# Altium footprint library DC 5.5 2.1.PcbLib: 1 footprints
Each footprint in its own frame and in the unit in brackets; x right, y up, seen from the top. Pads: shape width x height; smd on the part's side, far side on the other; paste and mask are expansions set on the pad; w line width, h text height; cw(c..) or ccw(c..) is an arc to the next point about the centre after c.
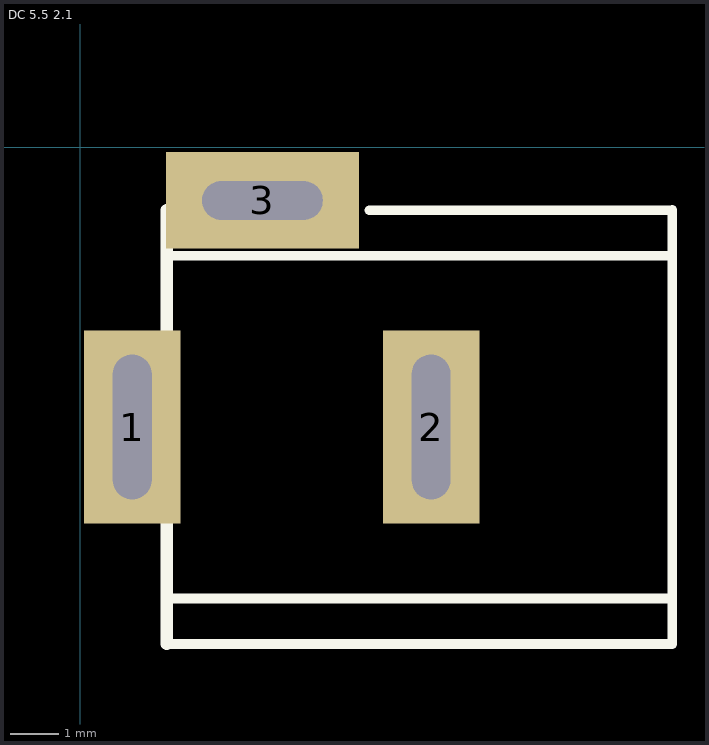
[diagram p0: the footprint, top view; thin cyan lines are the x and y axes]

## DC 5.5 2.1 [mm]
pads (3):
  rect 2x4 hole 0.8 slot 3 at 90 deg: 1(1.081,-5.799) 2(7.281,-5.799)
  rect 4x2 hole 0.8 slot 2.5 at 0 deg: 3(3.781,-1.099)
Top Overlay:
  lines w0.2: 1.797,-9.355 12.281,-9.355 ; 1.797,-2.243 12.281,-2.243 ; 1.798,-10.3 12.281,-10.3 ; 6,-1.3 12.281,-1.3 ; 12.281,-10.299 12.281,-1.299
  lines w0.254: 1.797,-10.299 1.797,-1.299